# Altium integrated library Motorola Microcontroller 8-Bit.IntLib: 909 symbols (part 4 of 31)
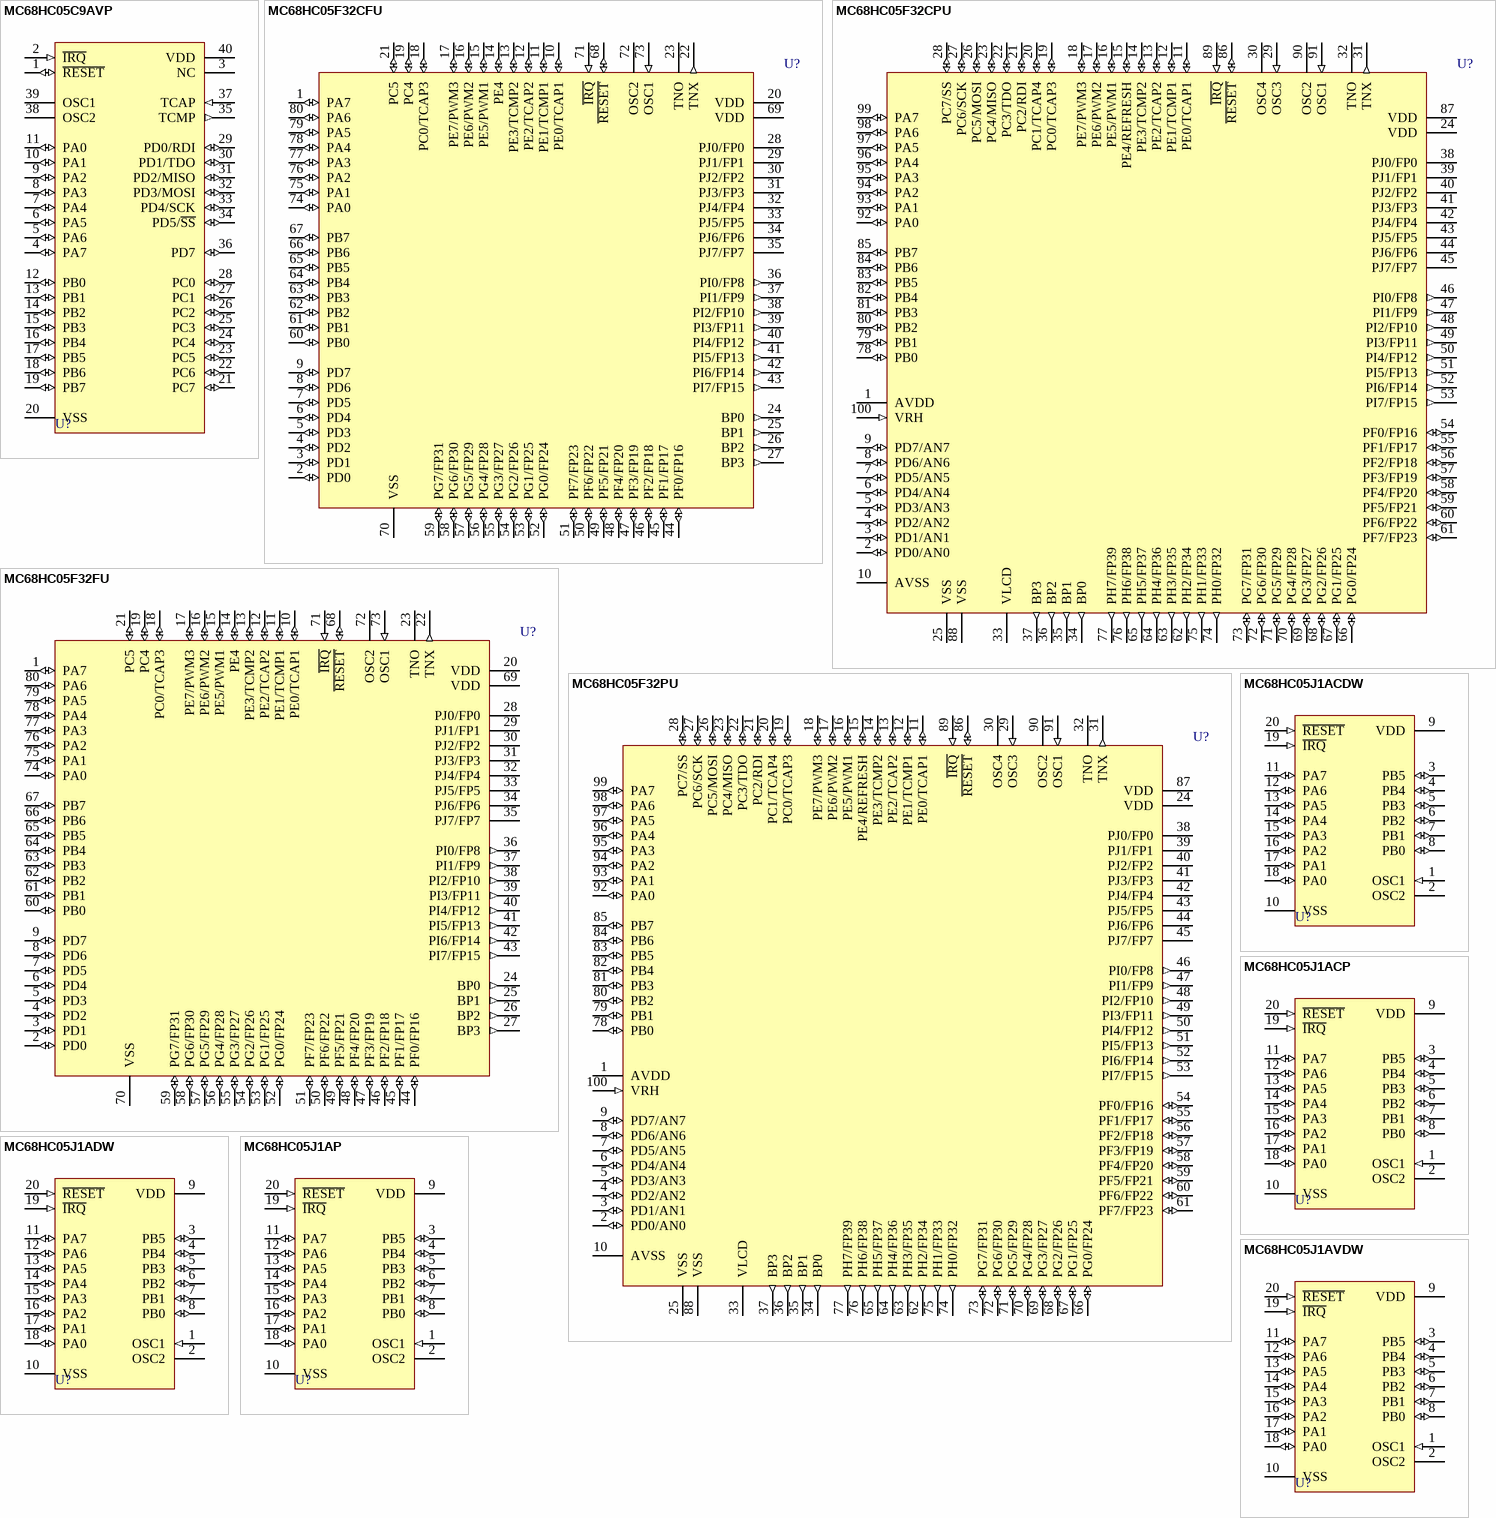
[diagram p116: symbols MC68HC05C9AVP to MC68HC05J1AVDW]

## MC68HC05F32CPU
designator U?
High Density HCMOS microcontroller unit; Published: 17-Jan-2003; LatestRevisionDate: 13-Apr-2006; LatestRevisionNote: IPC-7351 Footprint Added.; DatasheetVersion: 1998; PackageVersion: 1999; PackageReference: 983-01; Publisher: Altium Limited; PackageDescription: 100-Pin Thin Quad Flat Pack 0.5 mm Pitch; ComponentLink1Description: Manufacturer Link; ComponentLink1URL: http://www.freescale.com/
footprint 983-01_N (Thin QFP, 100-Leads, Body 14x14mm, Pitch 0.5mm, IPC Medium Density)
footprint 983-01_L (Thin QFP, 100-Leads, Body 14x14mm, Pitch 0.5mm, IPC High Density)
footprint 983-01_M (Thin QFP, 100-Leads, Body 14x14mm, Pitch 0.5mm, IPC Low Density)
3D model MC68HC05-983-01 (100-Pin Thin Quad Flat Pack 0.5 mm Pitch)
pins: 1 AVDD (power), 2 PD0/AN0 (io), 3 PD1/AN1 (io), 4 PD2/AN2 (io), 5 PD3/AN3 (io), 6 PD4/AN4 (io), 7 PD5/AN5 (io), 8 PD6/AN6 (io), 9 PD7/AN7 (io), 10 AVSS (power), 11 PE0/TCAP1 (io), 12 PE1/TCMP1 (io), 13 PE2/TCAP2 (io), 14 PE3/TCMP2 (io), 15 PE4/REFRESH (io), 16 PE5/PWM1 (io), 17 PE6/PWM2 (io), 18 PE7/PWM3 (io), 19 PC0/TCAP3 (io), 20 PC1/TCAP4 (io), 21 PC2/RDI (io), 22 PC3/TDO (io), 23 PC4/MISO (io), 24 VDD (power), 25 VSS (power), 26 PC5/MOSI (io), 27 PC6/SCK (io), 28 PC7/SS (io), 29 OSC3 (in), 30 OSC4, 31 TNX (out), 32 TNO (hiz), 33 VLCD (power), 34 BP0 (out), 35 BP1 (out), 36 BP2 (out), 37 BP3 (out), 38 PJ0/FP0 (oc), 39 PJ1/FP1 (oc), 40 PJ2/FP2 (oc), 41 PJ3/FP3 (oc), 42 PJ4/FP4 (oc), 43 PJ5/FP5 (oc), 44 PJ6/FP6 (oc), 45 PJ7/FP7 (oc), 46 PI0/FP8 (out), 47 PI1/FP9 (out), 48 PI2/FP10 (out), 49 PI3/FP11 (out), 50 PI4/FP12 (out), 51 PI5/FP13 (out), 52 PI6/FP14 (out), 53 PI7/FP15 (out), 54 PF0/FP16 (io), 55 PF1/FP17 (io), 56 PF2/FP18 (io), 57 PF3/FP19 (io), 58 PF4/FP20 (io), 59 PF5/FP21 (io), 60 PF6/FP22 (io), 61 PF7/FP23 (io), 62 PH2/FP34 (out), 63 PH3/FP35 (out), 64 PH4/FP36 (out), 65 PH5/FP37 (out), 66 PG0/FP24 (io), 67 PG1/FP25 (io), 68 PG2/FP26 (io), 69 PG3/FP27 (io), 70 PG4/FP28 (io), 71 PG5/FP29 (io), 72 PG6/FP30 (io), 73 PG7/FP31 (io), 74 PH0/FP32 (out), 75 PH1/FP33 (out), 76 PH6/FP38 (out), 77 PH7/FP39 (out), 78 PB0 (io), 79 PB1 (io), 80 PB2 (io), 81 PB3 (io), 82 PB4 (io), 83 PB5 (io), 84 PB6 (io), 85 PB7 (io), 86 ~{RESET} (io), 87 VDD (power), 88 VSS (power), 89 ~{IRQ} (in), 90 OSC2, 91 OSC1 (in), 92 PA0 (io), 93 PA1 (io), 94 PA2 (io), 95 PA3 (io), 96 PA4 (io), 97 PA5 (io), 98 PA6 (io), 99 PA7 (io), 100 VRH (in)

## MC68HC05F32FU
designator U?
High Density HCMOS microcontroller unit; Published: 17-Jan-2003; LatestRevisionDate: 13-Apr-2006; LatestRevisionNote: IPC-7351 Footprint Added.; DatasheetVersion: 1998; PackageVersion: Jul-1998; PackageReference: 841B-01; Publisher: Altium Limited; PackageDescription: 80-Pin Quad Flat Pack 0.65 mm Pitch; Code_IPC: QFP65P1720X1720-80; ComponentLink1Description: Manufacturer Link; ComponentLink1URL: http://www.freescale.com/
footprint 841B-01_N (QFP, 80-Leads, Body 14 x 14mm, Pitch 0.65mm, IPC Medium Density)
footprint 841B-01_L (QFP, 80-Leads, Body 14 x 14mm, Pitch 0.65mm, IPC High Density)
footprint 841B-01_M (QFP, 80-Leads, Body 14 x 14mm, Pitch 0.65mm, IPC Low Density)
3D model MC68HC05-841B (80-Pin Quad Flat Pack 0.65 mm Pitch)
pins: 1 PA7 (io), 2 PD0 (io), 3 PD1 (io), 4 PD2 (io), 5 PD3 (io), 6 PD4 (io), 7 PD5 (io), 8 PD6 (io), 9 PD7 (io), 10 PE0/TCAP1 (io), 11 PE1/TCMP1 (io), 12 PE2/TCAP2 (io), 13 PE3/TCMP2 (io), 14 PE4 (io), 15 PE5/PWM1 (io), 16 PE6/PWM2 (io), 17 PE7/PWM3 (io), 18 PC0/TCAP3 (io), 19 PC4 (io), 20 VDD (power), 21 PC5 (io), 22 TNX (out), 23 TNO (hiz), 24 BP0 (out), 25 BP1 (out), 26 BP2 (out), 27 BP3 (out), 28 PJ0/FP0 (oc), 29 PJ1/FP1 (oc), 30 PJ2/FP2 (oc), 31 PJ3/FP3 (oc), 32 PJ4/FP4 (oc), 33 PJ5/FP5 (oc), 34 PJ6/FP6 (oc), 35 PJ7/FP7 (oc), 36 PI0/FP8 (out), 37 PI1/FP9 (out), 38 PI2/FP10 (out), 39 PI3/FP11 (out), 40 PI4/FP12 (out), 41 PI5/FP13 (out), 42 PI6/FP14 (out), 43 PI7/FP15 (out), 44 PF0/FP16 (io), 45 PF1/FP17 (io), 46 PF2/FP18 (io), 47 PF3/FP19 (io), 48 PF4/FP20 (io), 49 PF5/FP21 (io), 50 PF6/FP22 (io), 51 PF7/FP23 (io), 52 PG0/FP24 (io), 53 PG1/FP25 (io), 54 PG2/FP26 (io), 55 PG3/FP27 (io), 56 PG4/FP28 (io), 57 PG5/FP29 (io), 58 PG6/FP30 (io), 59 PG7/FP31 (io), 60 PB0 (io), 61 PB1 (io), 62 PB2 (io), 63 PB3 (io), 64 PB4 (io), 65 PB5 (io), 66 PB6 (io), 67 PB7 (io), 68 ~{RESET} (io), 69 VDD (power), 70 VSS (power), 71 ~{IRQ} (in), 72 OSC2, 73 OSC1 (in), 74 PA0 (io), 75 PA1 (io), 76 PA2 (io), 77 PA3 (io), 78 PA4 (io), 79 PA5 (io), 80 PA6 (io)

## MC68HC05F32PU
designator U?
High Density HCMOS microcontroller unit; Published: 17-Jan-2003; LatestRevisionDate: 13-Apr-2006; LatestRevisionNote: IPC-7351 Footprint Added.; DatasheetVersion: 1998; PackageVersion: 1999; PackageReference: 983-01; Publisher: Altium Limited; PackageDescription: 100-Pin Thin Quad Flat Pack 0.5 mm Pitch; ComponentLink1Description: Manufacturer Link; ComponentLink1URL: http://www.freescale.com/
footprint 983-01_N (Thin QFP, 100-Leads, Body 14x14mm, Pitch 0.5mm, IPC Medium Density)
footprint 983-01_L (Thin QFP, 100-Leads, Body 14x14mm, Pitch 0.5mm, IPC High Density)
footprint 983-01_M (Thin QFP, 100-Leads, Body 14x14mm, Pitch 0.5mm, IPC Low Density)
3D model MC68HC05-983-01 (100-Pin Thin Quad Flat Pack 0.5 mm Pitch)
pins: 1 AVDD (power), 2 PD0/AN0 (io), 3 PD1/AN1 (io), 4 PD2/AN2 (io), 5 PD3/AN3 (io), 6 PD4/AN4 (io), 7 PD5/AN5 (io), 8 PD6/AN6 (io), 9 PD7/AN7 (io), 10 AVSS (power), 11 PE0/TCAP1 (io), 12 PE1/TCMP1 (io), 13 PE2/TCAP2 (io), 14 PE3/TCMP2 (io), 15 PE4/REFRESH (io), 16 PE5/PWM1 (io), 17 PE6/PWM2 (io), 18 PE7/PWM3 (io), 19 PC0/TCAP3 (io), 20 PC1/TCAP4 (io), 21 PC2/RDI (io), 22 PC3/TDO (io), 23 PC4/MISO (io), 24 VDD (power), 25 VSS (power), 26 PC5/MOSI (io), 27 PC6/SCK (io), 28 PC7/SS (io), 29 OSC3 (in), 30 OSC4, 31 TNX (out), 32 TNO (hiz), 33 VLCD (power), 34 BP0 (out), 35 BP1 (out), 36 BP2 (out), 37 BP3 (out), 38 PJ0/FP0 (oc), 39 PJ1/FP1 (oc), 40 PJ2/FP2 (oc), 41 PJ3/FP3 (oc), 42 PJ4/FP4 (oc), 43 PJ5/FP5 (oc), 44 PJ6/FP6 (oc), 45 PJ7/FP7 (oc), 46 PI0/FP8 (out), 47 PI1/FP9 (out), 48 PI2/FP10 (out), 49 PI3/FP11 (out), 50 PI4/FP12 (out), 51 PI5/FP13 (out), 52 PI6/FP14 (out), 53 PI7/FP15 (out), 54 PF0/FP16 (io), 55 PF1/FP17 (io), 56 PF2/FP18 (io), 57 PF3/FP19 (io), 58 PF4/FP20 (io), 59 PF5/FP21 (io), 60 PF6/FP22 (io), 61 PF7/FP23 (io), 62 PH2/FP34 (out), 63 PH3/FP35 (out), 64 PH4/FP36 (out), 65 PH5/FP37 (out), 66 PG0/FP24 (io), 67 PG1/FP25 (io), 68 PG2/FP26 (io), 69 PG3/FP27 (io), 70 PG4/FP28 (io), 71 PG5/FP29 (io), 72 PG6/FP30 (io), 73 PG7/FP31 (io), 74 PH0/FP32 (out), 75 PH1/FP33 (out), 76 PH6/FP38 (out), 77 PH7/FP39 (out), 78 PB0 (io), 79 PB1 (io), 80 PB2 (io), 81 PB3 (io), 82 PB4 (io), 83 PB5 (io), 84 PB6 (io), 85 PB7 (io), 86 ~{RESET} (io), 87 VDD (power), 88 VSS (power), 89 ~{IRQ} (in), 90 OSC2, 91 OSC1 (in), 92 PA0 (io), 93 PA1 (io), 94 PA2 (io), 95 PA3 (io), 96 PA4 (io), 97 PA5 (io), 98 PA6 (io), 99 PA7 (io), 100 VRH (in)

## MC68HC05J1ACDW
designator U?
8-Bit Microcontroller; Published: 17-Jan-2003; LatestRevisionDate: 13-Apr-2006; LatestRevisionNote: IPC-7351 Footprint Added.; DatasheetVersion: Rev 3, 4/2002; PackageReference: 751D-04; Publisher: Altium Limited; PackageDescription: 20-Pin Small Outline Integrated Circuit 1.27 mm Pitch; ComponentLink1Description: Manufacturer Link; ComponentLink1URL: http://www.freescale.com/; ComponentLink2Description: Datasheet; ComponentLink2URL: http://www.freescale.com/files/microcontrollers/doc/data_sheet/MC68HC05J1A.pdf
footprint 751D-04_N (SOIC, 20-Leads, Body 12.8x7.5mm, Pitch 1.27mm, IPC Medium Density)
footprint 751D-04_L (SOIC, 20-Leads, Body 12.8x7.5mm, Pitch 1.27mm, IPC High Density)
footprint 751D-04_M (SOIC, 20-Leads, Body 12.8x7.5mm, Pitch 1.27mm, IPC Low Density)
3D model 751D-05 (20-Pin Small Outline Integrated Circuit 1.27 mm Pitch)
pins: 1 OSC1 (in), 2 OSC2, 3 PB5 (io), 4 PB4 (io), 5 PB3 (io), 6 PB2 (io), 7 PB1 (io), 8 PB0 (io), 9 VDD (power), 10 VSS (power), 11 PA7 (io), 12 PA6 (io), 13 PA5 (io), 14 PA4 (io), 15 PA3 (io), 16 PA2 (io), 17 PA1 (io), 18 PA0 (io), 19 ~{IRQ} (in), 20 ~{RESET} (in)

## MC68HC05J1ACP
designator U?
8-Bit Microcontroller; Published: 17-Jan-2003; LatestRevisionDate: 06-Jun-2005; LatestRevisionNote: Stylized 3D Model Added.; DatasheetVersion: Rev 3, 4/2002; PackageReference: 738-03; Publisher: Altium Limited; PackageDescription: DIP; 20 Leads; Row Spacing 7.62 mm; Pitch 2.54 mm; Code_JEDEC: MS-001-AD; ComponentLink1Description: Manufacturer Link; ComponentLink1URL: http://www.freescale.com/; ComponentLink2Description: Datasheet; ComponentLink2URL: http://www.freescale.com/files/microcontrollers/doc/data_sheet/MC68HC05J1A.pdf
footprint 738-03 (DIP; 20 Leads; Row Spacing 7.62 mm; Pitch 2.54 mm)
3D model 738-03 (DIP; 20 Leads; Row Spacing 7.62 mm; Pitch 2.54 mm)
pins: 1 OSC1 (in), 2 OSC2, 3 PB5 (io), 4 PB4 (io), 5 PB3 (io), 6 PB2 (io), 7 PB1 (io), 8 PB0 (io), 9 VDD (power), 10 VSS (power), 11 PA7 (io), 12 PA6 (io), 13 PA5 (io), 14 PA4 (io), 15 PA3 (io), 16 PA2 (io), 17 PA1 (io), 18 PA0 (io), 19 ~{IRQ} (in), 20 ~{RESET} (in)

## MC68HC05J1ADW
designator U?
8-Bit Microcontroller; Published: 17-Jan-2003; LatestRevisionDate: 13-Apr-2006; LatestRevisionNote: IPC-7351 Footprint Added.; DatasheetVersion: Rev 3, 4/2002; PackageReference: 751D-04; Publisher: Altium Limited; PackageDescription: 20-Pin Small Outline Integrated Circuit 1.27 mm Pitch; ComponentLink1Description: Manufacturer Link; ComponentLink1URL: http://www.freescale.com/; ComponentLink2Description: Datasheet; ComponentLink2URL: http://www.freescale.com/files/microcontrollers/doc/data_sheet/MC68HC05J1A.pdf
footprint 751D-04_N (SOIC, 20-Leads, Body 12.8x7.5mm, Pitch 1.27mm, IPC Medium Density)
footprint 751D-04_L (SOIC, 20-Leads, Body 12.8x7.5mm, Pitch 1.27mm, IPC High Density)
footprint 751D-04_M (SOIC, 20-Leads, Body 12.8x7.5mm, Pitch 1.27mm, IPC Low Density)
3D model 751D-05 (20-Pin Small Outline Integrated Circuit 1.27 mm Pitch)
pins: 1 OSC1 (in), 2 OSC2, 3 PB5 (io), 4 PB4 (io), 5 PB3 (io), 6 PB2 (io), 7 PB1 (io), 8 PB0 (io), 9 VDD (power), 10 VSS (power), 11 PA7 (io), 12 PA6 (io), 13 PA5 (io), 14 PA4 (io), 15 PA3 (io), 16 PA2 (io), 17 PA1 (io), 18 PA0 (io), 19 ~{IRQ} (in), 20 ~{RESET} (in)

## MC68HC05J1AP
designator U?
8-Bit Microcontroller; Published: 17-Jan-2003; LatestRevisionDate: 06-Jun-2005; LatestRevisionNote: Stylized 3D Model Added.; DatasheetVersion: Rev 3, 4/2002; PackageReference: 738-03; Publisher: Altium Limited; PackageDescription: DIP; 20 Leads; Row Spacing 7.62 mm; Pitch 2.54 mm; Code_JEDEC: MS-001-AD; ComponentLink1Description: Manufacturer Link; ComponentLink1URL: http://www.freescale.com/; ComponentLink2Description: Datasheet; ComponentLink2URL: http://www.freescale.com/files/microcontrollers/doc/data_sheet/MC68HC05J1A.pdf
footprint 738-03 (DIP; 20 Leads; Row Spacing 7.62 mm; Pitch 2.54 mm)
3D model 738-03 (DIP; 20 Leads; Row Spacing 7.62 mm; Pitch 2.54 mm)
pins: 1 OSC1 (in), 2 OSC2, 3 PB5 (io), 4 PB4 (io), 5 PB3 (io), 6 PB2 (io), 7 PB1 (io), 8 PB0 (io), 9 VDD (power), 10 VSS (power), 11 PA7 (io), 12 PA6 (io), 13 PA5 (io), 14 PA4 (io), 15 PA3 (io), 16 PA2 (io), 17 PA1 (io), 18 PA0 (io), 19 ~{IRQ} (in), 20 ~{RESET} (in)

## MC68HC05J1AVDW
designator U?
8-Bit Microcontroller; Published: 17-Jan-2003; LatestRevisionDate: 13-Apr-2006; LatestRevisionNote: IPC-7351 Footprint Added.; DatasheetVersion: Rev 3, 4/2002; PackageReference: 751D-04; Publisher: Altium Limited; PackageDescription: 20-Pin Small Outline Integrated Circuit 1.27 mm Pitch; ComponentLink1Description: Manufacturer Link; ComponentLink1URL: http://www.freescale.com/; ComponentLink2Description: Datasheet; ComponentLink2URL: http://www.freescale.com/files/microcontrollers/doc/data_sheet/MC68HC05J1A.pdf
footprint 751D-04_N (SOIC, 20-Leads, Body 12.8x7.5mm, Pitch 1.27mm, IPC Medium Density)
footprint 751D-04_L (SOIC, 20-Leads, Body 12.8x7.5mm, Pitch 1.27mm, IPC High Density)
footprint 751D-04_M (SOIC, 20-Leads, Body 12.8x7.5mm, Pitch 1.27mm, IPC Low Density)
3D model 751D-05 (20-Pin Small Outline Integrated Circuit 1.27 mm Pitch)
pins: 1 OSC1 (in), 2 OSC2, 3 PB5 (io), 4 PB4 (io), 5 PB3 (io), 6 PB2 (io), 7 PB1 (io), 8 PB0 (io), 9 VDD (power), 10 VSS (power), 11 PA7 (io), 12 PA6 (io), 13 PA5 (io), 14 PA4 (io), 15 PA3 (io), 16 PA2 (io), 17 PA1 (io), 18 PA0 (io), 19 ~{IRQ} (in), 20 ~{RESET} (in)

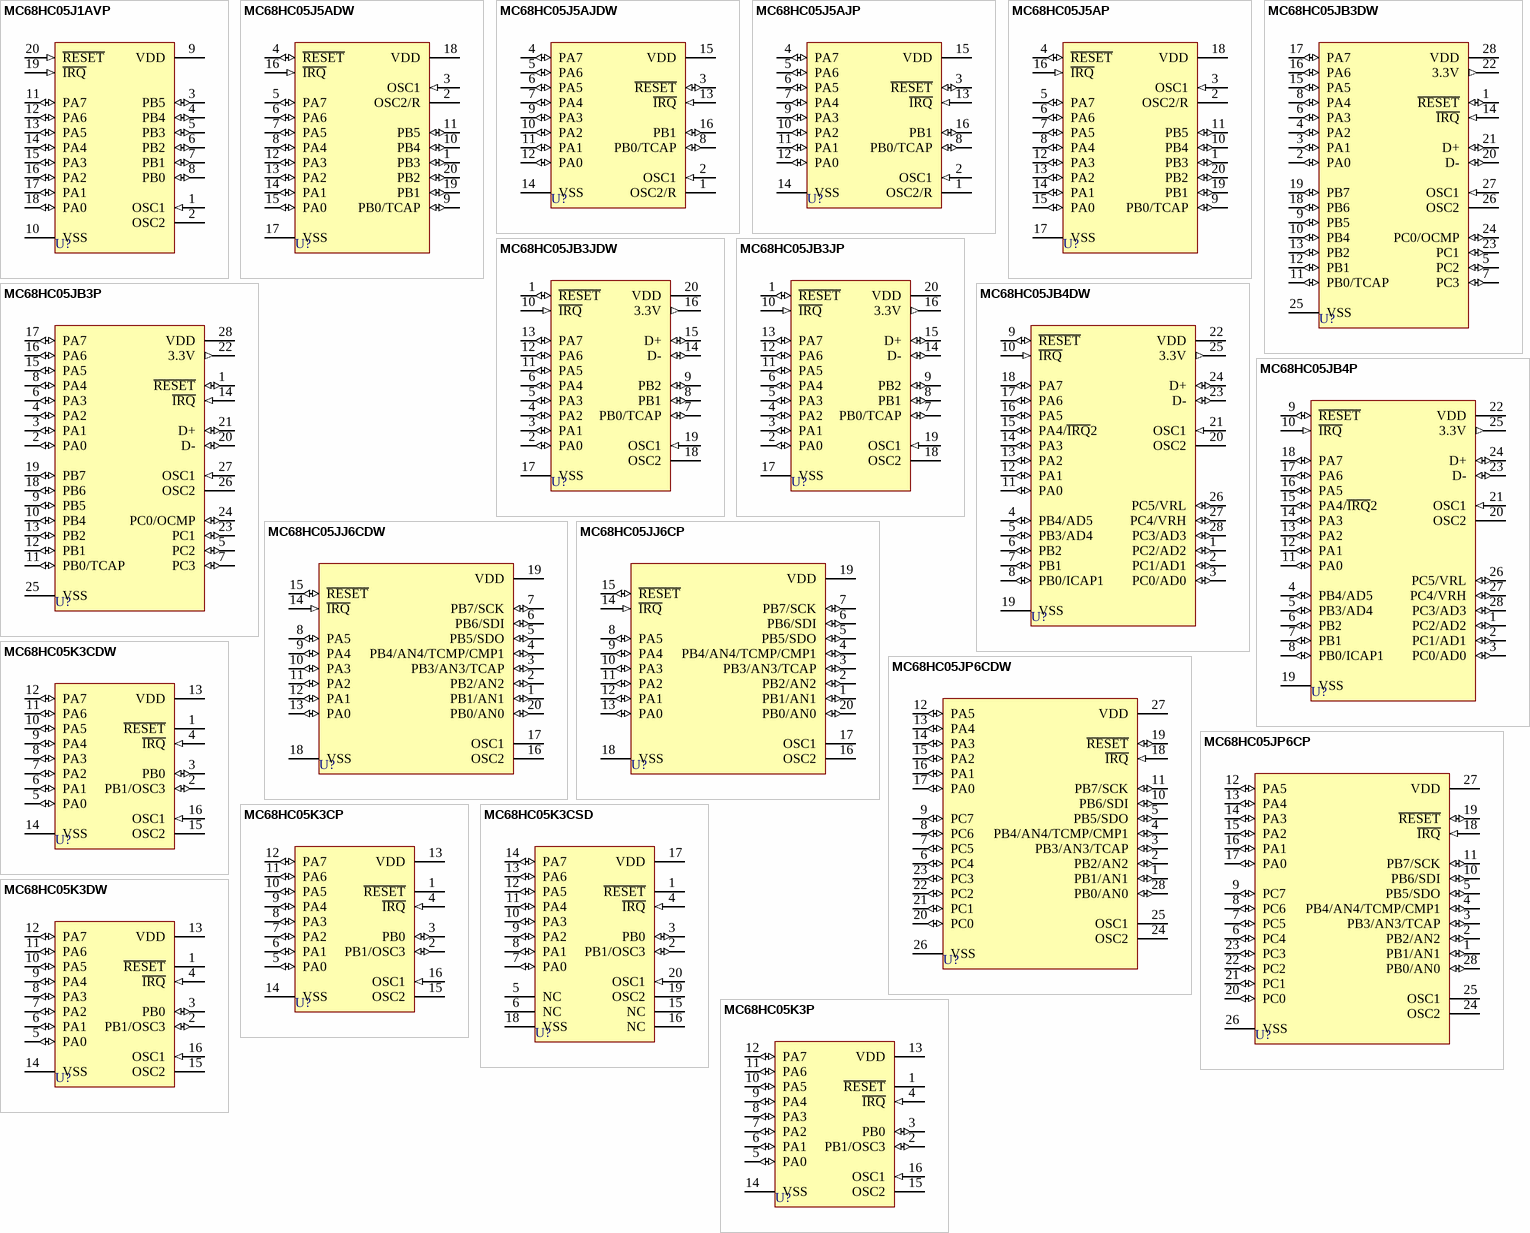
[diagram p10: symbols MC68HC05J1AVP to MC68HC05K3P]

## MC68HC05J1AVP
designator U?
8-Bit Microcontroller; Published: 17-Jan-2003; LatestRevisionDate: 06-Jun-2005; LatestRevisionNote: Stylized 3D Model Added.; DatasheetVersion: Rev 3, 4/2002; PackageReference: 738-03; Publisher: Altium Limited; PackageDescription: DIP; 20 Leads; Row Spacing 7.62 mm; Pitch 2.54 mm; Code_JEDEC: MS-001-AD; ComponentLink1Description: Manufacturer Link; ComponentLink1URL: http://www.freescale.com/; ComponentLink2Description: Datasheet; ComponentLink2URL: http://www.freescale.com/files/microcontrollers/doc/data_sheet/MC68HC05J1A.pdf
footprint 738-03 (DIP; 20 Leads; Row Spacing 7.62 mm; Pitch 2.54 mm)
3D model 738-03 (DIP; 20 Leads; Row Spacing 7.62 mm; Pitch 2.54 mm)
pins: 1 OSC1 (in), 2 OSC2, 3 PB5 (io), 4 PB4 (io), 5 PB3 (io), 6 PB2 (io), 7 PB1 (io), 8 PB0 (io), 9 VDD (power), 10 VSS (power), 11 PA7 (io), 12 PA6 (io), 13 PA5 (io), 14 PA4 (io), 15 PA3 (io), 16 PA2 (io), 17 PA1 (io), 18 PA0 (io), 19 ~{IRQ} (in), 20 ~{RESET} (in)

## MC68HC05J5ADW
designator U?
8-Bit Microcontroller; Published: 17-Jan-2003; LatestRevisionDate: 13-Apr-2006; LatestRevisionNote: IPC-7351 Footprint Added.; DatasheetVersion: Rev 2.1, July 16-1999; PackageReference: 751D-04; Publisher: Altium Limited; PackageDescription: 20-Pin Small Outline Integrated Circuit 1.27 mm Pitch; ComponentLink1Description: Manufacturer Link; ComponentLink1URL: http://www.freescale.com/; ComponentLink2Description: Datasheet; ComponentLink2URL: http://www.freescale.com/files/microcontrollers/doc/data_sheet/HC05J5AGRS.pdf
footprint 751D-04_N (SOIC, 20-Leads, Body 12.8x7.5mm, Pitch 1.27mm, IPC Medium Density)
footprint 751D-04_L (SOIC, 20-Leads, Body 12.8x7.5mm, Pitch 1.27mm, IPC High Density)
footprint 751D-04_M (SOIC, 20-Leads, Body 12.8x7.5mm, Pitch 1.27mm, IPC Low Density)
3D model 751D-05 (20-Pin Small Outline Integrated Circuit 1.27 mm Pitch)
pins: 1 PB3 (io), 2 OSC2/R, 3 OSC1 (in), 4 ~{RESET} (io), 5 PA7 (io), 6 PA6 (io), 7 PA5 (io), 8 PA4 (io), 9 PB0/TCAP (io), 10 PB4 (io), 11 PB5 (io), 12 PA3 (io), 13 PA2 (io), 14 PA1 (io), 15 PA0 (io), 16 ~{IRQ} (in), 17 VSS (power), 18 VDD (power), 19 PB1 (io), 20 PB2 (io)

## MC68HC05J5AJDW
designator U?
8-Bit Microcontroller; Published: 17-Jan-2003; LatestRevisionDate: 13-Apr-2006; LatestRevisionNote: IPC-7351 Footprint Added.; DatasheetVersion: Rev 2.1, July 16-1999; PackageVersion: Sep-2002; PackageReference: 751G; Publisher: Altium Limited; PackageDescription: 16-Pin Small Outline Integrated Circuit 1.27 mm Pitch; ComponentLink1Description: Manufacturer Link; ComponentLink1URL: http://www.freescale.com/; ComponentLink2Description: Datasheet; ComponentLink2URL: http://www.freescale.com/files/microcontrollers/doc/data_sheet/HC05J5AGRS.pdf
footprint 751G_N (SOIC, 16-Leads, Body 10.3x7.5mm, Pitch 1.27mm, IPC Medium Density)
footprint 751G_L (SOIC, 16-Leads, Body 10.3x7.5mm, Pitch 1.27mm, IPC High Density)
footprint 751G_M (SOIC, 16-Leads, Body 10.3x7.5mm, Pitch 1.27mm, IPC Low Density)
3D model 751G (16-Pin Small Outline Integrated Circuit 1.27 mm Pitch)
pins: 1 OSC2/R, 2 OSC1 (in), 3 ~{RESET} (io), 4 PA7 (io), 5 PA6 (io), 6 PA5 (io), 7 PA4 (io), 8 PB0/TCAP (io), 9 PA3 (io), 10 PA2 (io), 11 PA1 (io), 12 PA0 (io), 13 ~{IRQ} (in), 14 VSS (power), 15 VDD (power), 16 PB1 (io)

## MC68HC05J5AJP
designator U?
8-Bit Microcontroller; Published: 17-Jan-2003; LatestRevisionDate: 06-Jun-2005; LatestRevisionNote: Stylized 3D Model Added.; DatasheetVersion: Rev 2.1, July 16-1999; PackageReference: 648-08; Publisher: Altium Limited; PackageDescription: DIP; 16 Leads; Row Spacing 7.62 mm; Pitch 2.54 mm; Code_JEDEC: MS-001-BB; ComponentLink1Description: Manufacturer Link; ComponentLink1URL: http://www.freescale.com/; ComponentLink2Description: Datasheet; ComponentLink2URL: http://www.freescale.com/files/microcontrollers/doc/data_sheet/HC05J5AGRS.pdf
footprint 648-08 (DIP; 16 Leads; Row Spacing 7.62 mm; Pitch 2.54 mm)
3D model 648-08 (DIP; 16 Leads; Row Spacing 7.62 mm; Pitch 2.54 mm)
pins: 1 OSC2/R, 2 OSC1 (in), 3 ~{RESET} (io), 4 PA7 (io), 5 PA6 (io), 6 PA5 (io), 7 PA4 (io), 8 PB0/TCAP (io), 9 PA3 (io), 10 PA2 (io), 11 PA1 (io), 12 PA0 (io), 13 ~{IRQ} (in), 14 VSS (power), 15 VDD (power), 16 PB1 (io)

## MC68HC05J5AP
designator U?
8-Bit Microcontroller; Published: 17-Jan-2003; LatestRevisionDate: 06-Jun-2005; LatestRevisionNote: Stylized 3D Model Added.; DatasheetVersion: Rev 2.1, July 16-1999; PackageReference: 738-03; Publisher: Altium Limited; PackageDescription: DIP; 20 Leads; Row Spacing 7.62 mm; Pitch 2.54 mm; Code_JEDEC: MS-001-AD; ComponentLink1Description: Manufacturer Link; ComponentLink1URL: http://www.freescale.com/; ComponentLink2Description: Datasheet; ComponentLink2URL: http://www.freescale.com/files/microcontrollers/doc/data_sheet/HC05J5AGRS.pdf
footprint 738-03 (DIP; 20 Leads; Row Spacing 7.62 mm; Pitch 2.54 mm)
3D model 738-03 (DIP; 20 Leads; Row Spacing 7.62 mm; Pitch 2.54 mm)
pins: 1 PB3 (io), 2 OSC2/R, 3 OSC1 (in), 4 ~{RESET} (io), 5 PA7 (io), 6 PA6 (io), 7 PA5 (io), 8 PA4 (io), 9 PB0/TCAP (io), 10 PB4 (io), 11 PB5 (io), 12 PA3 (io), 13 PA2 (io), 14 PA1 (io), 15 PA0 (io), 16 ~{IRQ} (in), 17 VSS (power), 18 VDD (power), 19 PB1 (io), 20 PB2 (io)

## MC68HC05JB3DW
designator U?
8-Bit Microcontroller; Published: 17-Jan-2003; LatestRevisionDate: 13-Apr-2006; LatestRevisionNote: IPC-7351 Footprint Added.; DatasheetVersion: Rev 1, 5 Nov, 1998; PackageReference: 751F-03; Publisher: Altium Limited; PackageDescription: 28-Pin Small Outline Integrated Circuit 1.27 mm Pitch; ComponentLink1Description: Manufacturer Link; ComponentLink1URL: http://www.freescale.com/; ComponentLink2Description: Datasheet; ComponentLink2URL: http://www.freescale.com/files/microcontrollers/doc/data_sheet/HC05JB3GRS.pdf
footprint 751F-03_N (SOIC, 28-Leads, Body 17.9x7.5mm, Pitch 1.27mm, IPC Medium Density)
footprint 751F-03_L (SOIC, 28-Leads, Body 17.9x7.5mm, Pitch 1.27mm, IPC High Density)
footprint 751F-03_M (SOIC, 28-Leads, Body 17.9x7.5mm, Pitch 1.27mm, IPC Low Density)
3D model 751F-03 (28-Pin Small Outline Integrated Circuit 1.27 mm Pitch)
pins: 1 ~{RESET} (io), 2 PA0 (io), 3 PA1 (io), 4 PA2 (io), 5 PC2 (io), 6 PA3 (io), 7 PC3 (io), 8 PA4 (io), 9 PB5 (io), 10 PB4 (io), 11 PB0/TCAP (io), 12 PB1 (io), 13 PB2 (io), 14 ~{IRQ} (in), 15 PA5 (io), 16 PA6 (io), 17 PA7 (io), 18 PB6 (io), 19 PB7 (io), 20 D- (io), 21 D+ (io), 22 3.3V (out), 23 PC1 (io), 24 PC0/OCMP (io), 25 VSS (power), 26 OSC2, 27 OSC1 (in), 28 VDD (power)

## MC68HC05JB3JDW
designator U?
8-Bit Microcontroller; Published: 17-Jan-2003; LatestRevisionDate: 13-Apr-2006; LatestRevisionNote: IPC-7351 Footprint Added.; DatasheetVersion: Rev 1, 5 Nov, 1998; PackageReference: 751D-04; Publisher: Altium Limited; PackageDescription: 20-Pin Small Outline Integrated Circuit 1.27 mm Pitch; ComponentLink1Description: Manufacturer Link; ComponentLink1URL: http://www.freescale.com/; ComponentLink2Description: Datasheet; ComponentLink2URL: http://www.freescale.com/files/microcontrollers/doc/data_sheet/HC05JB3GRS.pdf
footprint 751D-04_N (SOIC, 20-Leads, Body 12.8x7.5mm, Pitch 1.27mm, IPC Medium Density)
footprint 751D-04_L (SOIC, 20-Leads, Body 12.8x7.5mm, Pitch 1.27mm, IPC High Density)
footprint 751D-04_M (SOIC, 20-Leads, Body 12.8x7.5mm, Pitch 1.27mm, IPC Low Density)
3D model 751D-05 (20-Pin Small Outline Integrated Circuit 1.27 mm Pitch)
pins: 1 ~{RESET} (io), 2 PA0 (io), 3 PA1 (io), 4 PA2 (io), 5 PA3 (io), 6 PA4 (io), 7 PB0/TCAP (io), 8 PB1 (io), 9 PB2 (io), 10 ~{IRQ} (in), 11 PA5 (io), 12 PA6 (io), 13 PA7 (io), 14 D- (io), 15 D+ (io), 16 3.3V (out), 17 VSS (power), 18 OSC2, 19 OSC1 (in), 20 VDD (power)

## MC68HC05JB3JP
designator U?
8-Bit Microcontroller; Published: 17-Jan-2003; LatestRevisionDate: 06-Jun-2005; LatestRevisionNote: Stylized 3D Model Added.; DatasheetVersion: Rev 1, 5 Nov, 1998; PackageReference: 738-03; Publisher: Altium Limited; PackageDescription: DIP; 20 Leads; Row Spacing 7.62 mm; Pitch 2.54 mm; Code_JEDEC: MS-001-AD; ComponentLink1Description: Manufacturer Link; ComponentLink1URL: http://www.freescale.com/; ComponentLink2Description: Datasheet; ComponentLink2URL: http://www.freescale.com/files/microcontrollers/doc/data_sheet/HC05JB3GRS.pdf
footprint 738-03 (DIP; 20 Leads; Row Spacing 7.62 mm; Pitch 2.54 mm)
3D model 738-03 (DIP; 20 Leads; Row Spacing 7.62 mm; Pitch 2.54 mm)
pins: 1 ~{RESET} (io), 2 PA0 (io), 3 PA1 (io), 4 PA2 (io), 5 PA3 (io), 6 PA4 (io), 7 PB0/TCAP (io), 8 PB1 (io), 9 PB2 (io), 10 ~{IRQ} (in), 11 PA5 (io), 12 PA6 (io), 13 PA7 (io), 14 D- (io), 15 D+ (io), 16 3.3V (out), 17 VSS (power), 18 OSC2, 19 OSC1 (in), 20 VDD (power)

## MC68HC05JB3P
designator U?
8-Bit Microcontroller; Published: 17-Jan-2003; LatestRevisionDate: 06-Jun-2005; LatestRevisionNote: Stylized 3D Model Added.; DatasheetVersion: Rev 1, 5 Nov, 1998; PackageReference: 710-02; Publisher: Altium Limited; PackageDescription: DIP; 28 Leads; Row Spacing 15.24 mm; Pitch 2.54 mm; ComponentLink1Description: Manufacturer Link; ComponentLink1URL: http://www.freescale.com/; ComponentLink2Description: Datasheet; ComponentLink2URL: http://www.freescale.com/files/microcontrollers/doc/data_sheet/HC05JB3GRS.pdf
footprint 710-02 (DIP; 28 Leads; Row Spacing 15.24 mm; Pitch 2.54 mm)
3D model 710-02 (DIP; 28 Leads; Row Spacing 15.24 mm; Pitch 2.54 mm)
pins: 1 ~{RESET} (io), 2 PA0 (io), 3 PA1 (io), 4 PA2 (io), 5 PC2 (io), 6 PA3 (io), 7 PC3 (io), 8 PA4 (io), 9 PB5 (io), 10 PB4 (io), 11 PB0/TCAP (io), 12 PB1 (io), 13 PB2 (io), 14 ~{IRQ} (in), 15 PA5 (io), 16 PA6 (io), 17 PA7 (io), 18 PB6 (io), 19 PB7 (io), 20 D- (io), 21 D+ (io), 22 3.3V (out), 23 PC1 (io), 24 PC0/OCMP (io), 25 VSS (power), 26 OSC2, 27 OSC1 (in), 28 VDD (power)

## MC68HC05JB4DW
designator U?
8-Bit Microcontroller; Published: 17-Jan-2003; LatestRevisionDate: 13-Apr-2006; LatestRevisionNote: IPC-7351 Footprint Added.; DatasheetVersion: Rev 2, 24-Feb-1999; PackageReference: 751F-03; Publisher: Altium Limited; PackageDescription: 28-Pin Small Outline Integrated Circuit 1.27 mm Pitch; ComponentLink1Description: Manufacturer Link; ComponentLink1URL: http://www.freescale.com/; ComponentLink2Description: Datasheet; ComponentLink2URL: http://www.freescale.com/files/microcontrollers/doc/data_sheet/HC05JB4GRS.pdf
footprint 751F-03_N (SOIC, 28-Leads, Body 17.9x7.5mm, Pitch 1.27mm, IPC Medium Density)
footprint 751F-03_L (SOIC, 28-Leads, Body 17.9x7.5mm, Pitch 1.27mm, IPC High Density)
footprint 751F-03_M (SOIC, 28-Leads, Body 17.9x7.5mm, Pitch 1.27mm, IPC Low Density)
3D model 751F-03 (28-Pin Small Outline Integrated Circuit 1.27 mm Pitch)
pins: 1 PC2/AD2 (io), 2 PC1/AD1 (io), 3 PC0/AD0 (io), 4 PB4/AD5 (io), 5 PB3/AD4 (io), 6 PB2 (io), 7 PB1 (io), 8 PB0/ICAP1 (io), 9 ~{RESET} (io), 10 ~{IRQ} (in), 11 PA0 (io), 12 PA1 (io), 13 PA2 (io), 14 PA3 (io), 15 PA4/~{IRQ}2 (io), 16 PA5 (io), 17 PA6 (io), 18 PA7 (io), 19 VSS (power), 20 OSC2, 21 OSC1 (in), 22 VDD (power), 23 D- (io), 24 D+ (io), 25 3.3V (out), 26 PC5/VRL (io), 27 PC4/VRH (io), 28 PC3/AD3 (io)

## MC68HC05JB4P
designator U?
8-Bit Microcontroller; Published: 17-Jan-2003; LatestRevisionDate: 06-Jun-2005; LatestRevisionNote: Stylized 3D Model Added.; DatasheetVersion: Rev 2, 24-Feb-1999; PackageReference: 710-02; Publisher: Altium Limited; PackageDescription: DIP; 28 Leads; Row Spacing 15.24 mm; Pitch 2.54 mm; ComponentLink1Description: Manufacturer Link; ComponentLink1URL: http://www.freescale.com/; ComponentLink2Description: Datasheet; ComponentLink2URL: http://www.freescale.com/files/microcontrollers/doc/data_sheet/HC05JB4GRS.pdf
footprint 710-02 (DIP; 28 Leads; Row Spacing 15.24 mm; Pitch 2.54 mm)
3D model 710-02 (DIP; 28 Leads; Row Spacing 15.24 mm; Pitch 2.54 mm)
pins: 1 PC2/AD2 (io), 2 PC1/AD1 (io), 3 PC0/AD0 (io), 4 PB4/AD5 (io), 5 PB3/AD4 (io), 6 PB2 (io), 7 PB1 (io), 8 PB0/ICAP1 (io), 9 ~{RESET} (io), 10 ~{IRQ} (in), 11 PA0 (io), 12 PA1 (io), 13 PA2 (io), 14 PA3 (io), 15 PA4/~{IRQ}2 (io), 16 PA5 (io), 17 PA6 (io), 18 PA7 (io), 19 VSS (power), 20 OSC2, 21 OSC1 (in), 22 VDD (power), 23 D- (io), 24 D+ (io), 25 3.3V (out), 26 PC5/VRL (io), 27 PC4/VRH (io), 28 PC3/AD3 (io)

## MC68HC05JJ6CDW
designator U?
8-Bit Microcontroller; Published: 17-Jan-2003; LatestRevisionDate: 13-Apr-2006; LatestRevisionNote: IPC-7351 Footprint Added.; DatasheetVersion: Rev 3, 2-Mar-1998; PackageReference: 751D-04; Publisher: Altium Limited; PackageDescription: 20-Pin Small Outline Integrated Circuit 1.27 mm Pitch; ComponentLink1Description: Manufacturer Link; ComponentLink1URL: http://www.freescale.com/
footprint 751D-04_N (SOIC, 20-Leads, Body 12.8x7.5mm, Pitch 1.27mm, IPC Medium Density)
footprint 751D-04_L (SOIC, 20-Leads, Body 12.8x7.5mm, Pitch 1.27mm, IPC High Density)
footprint 751D-04_M (SOIC, 20-Leads, Body 12.8x7.5mm, Pitch 1.27mm, IPC Low Density)
3D model 751D-05 (20-Pin Small Outline Integrated Circuit 1.27 mm Pitch)
pins: 1 PB1/AN1 (io), 2 PB2/AN2 (io), 3 PB3/AN3/TCAP (io), 4 PB4/AN4/TCMP/CMP1 (io), 5 PB5/SDO (io), 6 PB6/SDI (io), 7 PB7/SCK (io), 8 PA5 (io), 9 PA4 (io), 10 PA3 (io), 11 PA2 (io), 12 PA1 (io), 13 PA0 (io), 14 ~{IRQ} (in), 15 ~{RESET} (io), 16 OSC2, 17 OSC1, 18 VSS (power), 19 VDD (power), 20 PB0/AN0 (io)

## MC68HC05JJ6CP
designator U?
8-Bit Microcontroller; Published: 17-Jan-2003; LatestRevisionDate: 06-Jun-2005; LatestRevisionNote: Stylized 3D Model Added.; DatasheetVersion: Rev 3, 2-Mar-1998; PackageReference: 738-03; Publisher: Altium Limited; PackageDescription: DIP; 20 Leads; Row Spacing 7.62 mm; Pitch 2.54 mm; Code_JEDEC: MS-001-AD; ComponentLink1Description: Manufacturer Link; ComponentLink1URL: http://www.freescale.com/
footprint 738-03 (DIP; 20 Leads; Row Spacing 7.62 mm; Pitch 2.54 mm)
3D model 738-03 (DIP; 20 Leads; Row Spacing 7.62 mm; Pitch 2.54 mm)
pins: 1 PB1/AN1 (io), 2 PB2/AN2 (io), 3 PB3/AN3/TCAP (io), 4 PB4/AN4/TCMP/CMP1 (io), 5 PB5/SDO (io), 6 PB6/SDI (io), 7 PB7/SCK (io), 8 PA5 (io), 9 PA4 (io), 10 PA3 (io), 11 PA2 (io), 12 PA1 (io), 13 PA0 (io), 14 ~{IRQ} (in), 15 ~{RESET} (io), 16 OSC2, 17 OSC1, 18 VSS (power), 19 VDD (power), 20 PB0/AN0 (io)

## MC68HC05JP6CDW
designator U?
8-Bit Microcontroller; Published: 17-Jan-2003; LatestRevisionDate: 13-Apr-2006; LatestRevisionNote: IPC-7351 Footprint Added.; DatasheetVersion: Rev 3, 2-Mar-1998; PackageReference: 751F-03; Publisher: Altium Limited; PackageDescription: 28-Pin Small Outline Integrated Circuit 1.27 mm Pitch; ComponentLink1Description: Manufacturer Link; ComponentLink1URL: http://www.freescale.com/
footprint 751F-03_N (SOIC, 28-Leads, Body 17.9x7.5mm, Pitch 1.27mm, IPC Medium Density)
footprint 751F-03_L (SOIC, 28-Leads, Body 17.9x7.5mm, Pitch 1.27mm, IPC High Density)
footprint 751F-03_M (SOIC, 28-Leads, Body 17.9x7.5mm, Pitch 1.27mm, IPC Low Density)
3D model 751F-03 (28-Pin Small Outline Integrated Circuit 1.27 mm Pitch)
pins: 1 PB1/AN1 (io), 2 PB2/AN2 (io), 3 PB3/AN3/TCAP (io), 4 PB4/AN4/TCMP/CMP1 (io), 5 PB5/SDO (io), 6 PC4 (io), 7 PC5 (io), 8 PC6 (io), 9 PC7 (io), 10 PB6/SDI (io), 11 PB7/SCK (io), 12 PA5 (io), 13 PA4 (io), 14 PA3 (io), 15 PA2 (io), 16 PA1 (io), 17 PA0 (io), 18 ~{IRQ} (in), 19 ~{RESET} (io), 20 PC0 (io), 21 PC1 (io), 22 PC2 (io), 23 PC3 (io), 24 OSC2, 25 OSC1, 26 VSS (power), 27 VDD (power), 28 PB0/AN0 (io)

## MC68HC05JP6CP
designator U?
8-Bit Microcontroller; Published: 17-Jan-2003; LatestRevisionDate: 06-Jun-2005; LatestRevisionNote: Stylized 3D Model Added.; DatasheetVersion: Rev 3, 2-Mar-1998; PackageReference: 710-02; Publisher: Altium Limited; PackageDescription: DIP; 28 Leads; Row Spacing 15.24 mm; Pitch 2.54 mm; ComponentLink1Description: Manufacturer Link; ComponentLink1URL: http://www.freescale.com/
footprint 710-02 (DIP; 28 Leads; Row Spacing 15.24 mm; Pitch 2.54 mm)
3D model 710-02 (DIP; 28 Leads; Row Spacing 15.24 mm; Pitch 2.54 mm)
pins: 1 PB1/AN1 (io), 2 PB2/AN2 (io), 3 PB3/AN3/TCAP (io), 4 PB4/AN4/TCMP/CMP1 (io), 5 PB5/SDO (io), 6 PC4 (io), 7 PC5 (io), 8 PC6 (io), 9 PC7 (io), 10 PB6/SDI (io), 11 PB7/SCK (io), 12 PA5 (io), 13 PA4 (io), 14 PA3 (io), 15 PA2 (io), 16 PA1 (io), 17 PA0 (io), 18 ~{IRQ} (in), 19 ~{RESET} (io), 20 PC0 (io), 21 PC1 (io), 22 PC2 (io), 23 PC3 (io), 24 OSC2, 25 OSC1, 26 VSS (power), 27 VDD (power), 28 PB0/AN0 (io)

## MC68HC05K3CDW
designator U?
8-Bit Microcontroller; Published: 17-Jan-2003; LatestRevisionDate: 13-Apr-2006; LatestRevisionNote: IPC-7351 Footprint Added.; DatasheetVersion: Rev 4, 1998; PackageVersion: Sep-2002; PackageReference: 751G; Publisher: Altium Limited; PackageDescription: 16-Pin Small Outline Integrated Circuit 1.27 mm Pitch; ComponentLink1Description: Manufacturer Link; ComponentLink1URL: http://www.freescale.com/
footprint 751G_N (SOIC, 16-Leads, Body 10.3x7.5mm, Pitch 1.27mm, IPC Medium Density)
footprint 751G_L (SOIC, 16-Leads, Body 10.3x7.5mm, Pitch 1.27mm, IPC High Density)
footprint 751G_M (SOIC, 16-Leads, Body 10.3x7.5mm, Pitch 1.27mm, IPC Low Density)
3D model 751G (16-Pin Small Outline Integrated Circuit 1.27 mm Pitch)
pins: 1 ~{RESET}, 2 PB1/OSC3 (io), 3 PB0 (io), 4 ~{IRQ} (in), 5 PA0 (io), 6 PA1 (io), 7 PA2 (io), 8 PA3 (io), 9 PA4 (io), 10 PA5 (io), 11 PA6 (io), 12 PA7 (io), 13 VDD (power), 14 VSS (power), 15 OSC2, 16 OSC1 (in)

## MC68HC05K3CP
designator U?
8-Bit Microcontroller; Published: 17-Jan-2003; LatestRevisionDate: 06-Jun-2005; LatestRevisionNote: Stylized 3D Model Added.; DatasheetVersion: Rev 4, 1998; PackageReference: 648-08; Publisher: Altium Limited; PackageDescription: DIP; 16 Leads; Row Spacing 7.62 mm; Pitch 2.54 mm; Code_JEDEC: MS-001-BB; ComponentLink1Description: Manufacturer Link; ComponentLink1URL: http://www.freescale.com/
footprint 648-08 (DIP; 16 Leads; Row Spacing 7.62 mm; Pitch 2.54 mm)
3D model 648-08 (DIP; 16 Leads; Row Spacing 7.62 mm; Pitch 2.54 mm)
pins: 1 ~{RESET}, 2 PB1/OSC3 (io), 3 PB0 (io), 4 ~{IRQ} (in), 5 PA0 (io), 6 PA1 (io), 7 PA2 (io), 8 PA3 (io), 9 PA4 (io), 10 PA5 (io), 11 PA6 (io), 12 PA7 (io), 13 VDD (power), 14 VSS (power), 15 OSC2, 16 OSC1 (in)

## MC68HC05K3CSD
designator U?
8-Bit Microcontroller; Published: 17-Jan-2003; LatestRevisionDate: 06-Jun-2005; LatestRevisionNote: Stylized 3D Model Added.; DatasheetVersion: Rev 4, 1998; PackageVersion: rev4.0, 2001; PackageReference: 940C-03; Publisher: Altium Limited; PackageDescription: SSOP; 20 Leads; Body Width 5.3 mm; Pitch 0.65 mm; ComponentLink1Description: Manufacturer Link; ComponentLink1URL: http://www.freescale.com/
footprint 940C-03 (SSOP; 20 Leads; Body Width 5.3 mm; Pitch 0.65 mm)
3D model 940C-03 (SSOP; 20 Leads; Body Width 5.3 mm; Pitch 0.65 mm)
pins: 1 ~{RESET}, 2 PB1/OSC3 (io), 3 PB0 (io), 4 ~{IRQ} (in), 5 NC, 6 NC, 7 PA0 (io), 8 PA1 (io), 9 PA2 (io), 10 PA3 (io), 11 PA4 (io), 12 PA5 (io), 13 PA6 (io), 14 PA7 (io), 15 NC, 16 NC, 17 VDD (power), 18 VSS (power), 19 OSC2, 20 OSC1 (in)

## MC68HC05K3DW
designator U?
8-Bit Microcontroller; Published: 17-Jan-2003; LatestRevisionDate: 13-Apr-2006; LatestRevisionNote: IPC-7351 Footprint Added.; DatasheetVersion: Rev 4, 1998; PackageVersion: Sep-2002; PackageReference: 751G; Publisher: Altium Limited; PackageDescription: 16-Pin Small Outline Integrated Circuit 1.27 mm Pitch; ComponentLink1Description: Manufacturer Link; ComponentLink1URL: http://www.freescale.com/
footprint 751G_N (SOIC, 16-Leads, Body 10.3x7.5mm, Pitch 1.27mm, IPC Medium Density)
footprint 751G_L (SOIC, 16-Leads, Body 10.3x7.5mm, Pitch 1.27mm, IPC High Density)
footprint 751G_M (SOIC, 16-Leads, Body 10.3x7.5mm, Pitch 1.27mm, IPC Low Density)
3D model 751G (16-Pin Small Outline Integrated Circuit 1.27 mm Pitch)
pins: 1 ~{RESET}, 2 PB1/OSC3 (io), 3 PB0 (io), 4 ~{IRQ} (in), 5 PA0 (io), 6 PA1 (io), 7 PA2 (io), 8 PA3 (io), 9 PA4 (io), 10 PA5 (io), 11 PA6 (io), 12 PA7 (io), 13 VDD (power), 14 VSS (power), 15 OSC2, 16 OSC1 (in)

## MC68HC05K3P
designator U?
8-Bit Microcontroller; Published: 17-Jan-2003; LatestRevisionDate: 06-Jun-2005; LatestRevisionNote: Stylized 3D Model Added.; DatasheetVersion: Rev 4, 1998; PackageReference: 648-08; Publisher: Altium Limited; PackageDescription: DIP; 16 Leads; Row Spacing 7.62 mm; Pitch 2.54 mm; Code_JEDEC: MS-001-BB; ComponentLink1Description: Manufacturer Link; ComponentLink1URL: http://www.freescale.com/
footprint 648-08 (DIP; 16 Leads; Row Spacing 7.62 mm; Pitch 2.54 mm)
3D model 648-08 (DIP; 16 Leads; Row Spacing 7.62 mm; Pitch 2.54 mm)
pins: 1 ~{RESET}, 2 PB1/OSC3 (io), 3 PB0 (io), 4 ~{IRQ} (in), 5 PA0 (io), 6 PA1 (io), 7 PA2 (io), 8 PA3 (io), 9 PA4 (io), 10 PA5 (io), 11 PA6 (io), 12 PA7 (io), 13 VDD (power), 14 VSS (power), 15 OSC2, 16 OSC1 (in)

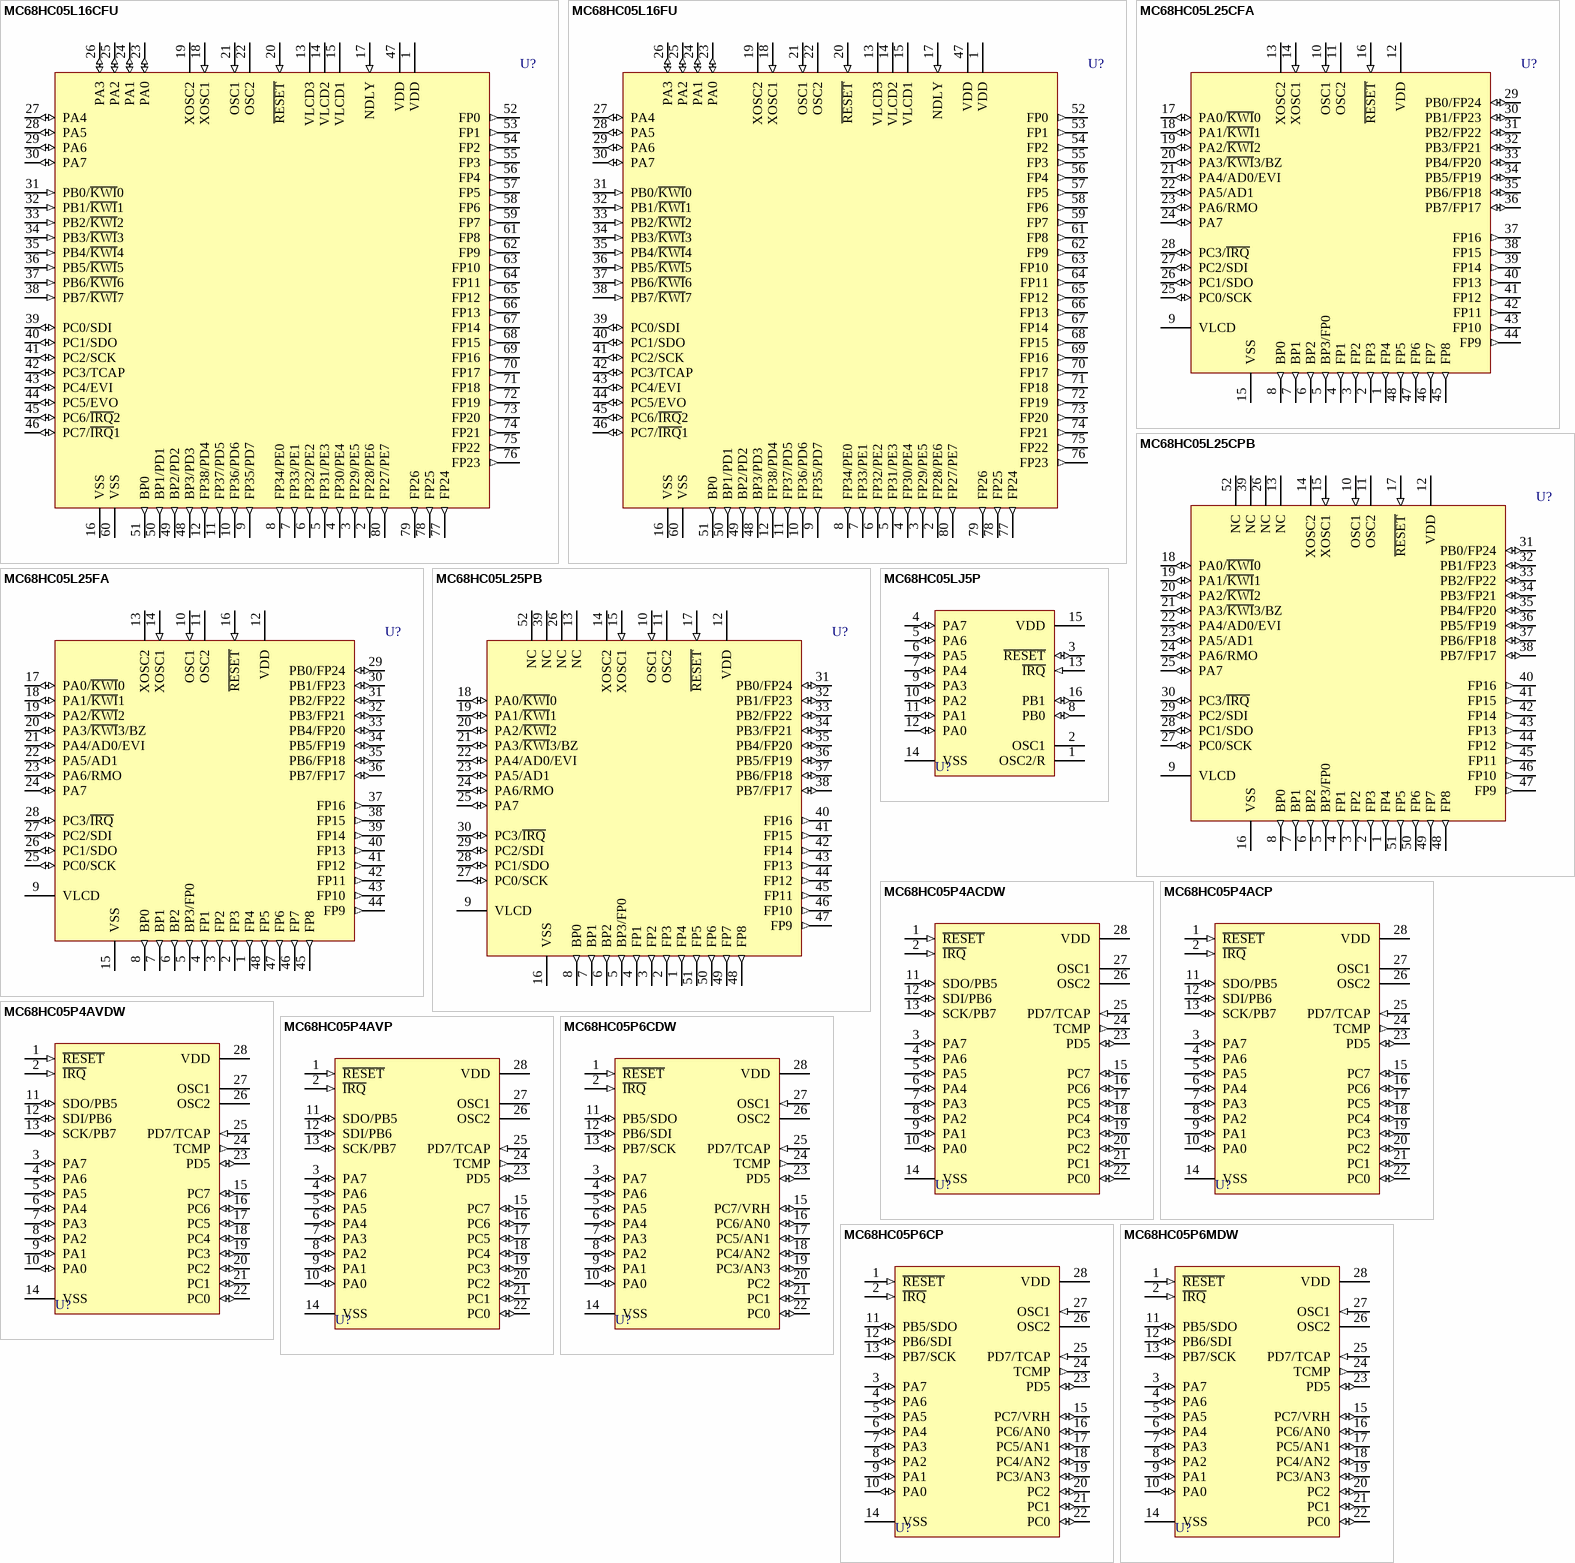
[diagram p11: symbols MC68HC05L16CFU to MC68HC05P6MDW]

## MC68HC05L16CFU
designator U?
8-Bit Microcontroller; Note: Pin 17 (NDLY) should be connected to VDD.; Published: 17-Jan-2003; LatestRevisionDate: 13-Apr-2006; LatestRevisionNote: IPC-7351 Footprint Added.; DatasheetVersion: Rev 4, 5/2002; PackageVersion: Jul-1998; PackageReference: 841B-01; Publisher: Altium Limited; PackageDescription: 80-Pin Quad Flat Pack 0.65 mm Pitch; Code_IPC: QFP65P1720X1720-80; ComponentLink1Description: Manufacturer Link; ComponentLink1URL: http://www.freescale.com/
footprint 841B-01_N (QFP, 80-Leads, Body 14 x 14mm, Pitch 0.65mm, IPC Medium Density)
footprint 841B-01_L (QFP, 80-Leads, Body 14 x 14mm, Pitch 0.65mm, IPC High Density)
footprint 841B-01_M (QFP, 80-Leads, Body 14 x 14mm, Pitch 0.65mm, IPC Low Density)
3D model MC68HC05-841B (80-Pin Quad Flat Pack 0.65 mm Pitch)
pins: 1 VDD (power), 2 FP28/PE6 (out), 3 FP29/PE5 (out), 4 FP30/PE4 (out), 5 FP31/PE3 (out), 6 FP32/PE2 (out), 7 FP33/PE1 (out), 8 FP34/PE0 (out), 9 FP35/PD7 (out), 10 FP36/PD6 (out), 11 FP37/PD5 (out), 12 FP38/PD4 (out), 13 VLCD3 (power), 14 VLCD2 (power), 15 VLCD1 (power), 16 VSS (power), 17 NDLY (in), 18 XOSC1 (in), 19 XOSC2, 20 ~{RESET} (in), 21 OSC1 (in), 22 OSC2, 23 PA0 (io), 24 PA1 (io), 25 PA2 (io), 26 PA3 (io), 27 PA4 (io), 28 PA5 (io), 29 PA6 (io), 30 PA7 (io), 31 PB0/~{KWI}0 (in), 32 PB1/~{KWI}1 (in), 33 PB2/~{KWI}2 (in), 34 PB3/~{KWI}3 (in), 35 PB4/~{KWI}4 (in), 36 PB5/~{KWI}5 (in), 37 PB6/~{KWI}6 (in), 38 PB7/~{KWI}7 (in), 39 PC0/SDI (io), 40 PC1/SDO (io), 41 PC2/SCK (io), 42 PC3/TCAP (io), 43 PC4/EVI (io), 44 PC5/EVO (io), 45 PC6/~{IRQ}2 (io), 46 PC7/~{IRQ}1 (io), 47 VDD (power), 48 BP3/PD3 (out), 49 BP2/PD2 (out), 50 BP1/PD1 (out), 51 BP0 (out), 52 FP0 (out), 53 FP1 (out), 54 FP2 (out), 55 FP3 (out), 56 FP4 (out), 57 FP5 (out), 58 FP6 (out), 59 FP7 (out), 60 VSS (power), 61 FP8 (out), 62 FP9 (out), 63 FP10 (out), 64 FP11 (out), 65 FP12 (out), 66 FP13 (out), 67 FP14 (out), 68 FP15 (out), 69 FP16 (out), 70 FP17 (out), 71 FP18 (out), 72 FP19 (out), 73 FP20 (out), 74 FP21 (out), 75 FP22 (out), 76 FP23 (out), 77 FP24 (out), 78 FP25 (out), 79 FP26 (out), 80 FP27/PE7 (out)

## MC68HC05L16FU
designator U?
8-Bit Microcontroller; Note: Pin 17 (NDLY) should be connected to VDD.; Published: 17-Jan-2003; LatestRevisionDate: 13-Apr-2006; LatestRevisionNote: IPC-7351 Footprint Added.; DatasheetVersion: Rev 4, 5/2002; PackageVersion: Jul-1998; PackageReference: 841B-01; Publisher: Altium Limited; PackageDescription: 80-Pin Quad Flat Pack 0.65 mm Pitch; Code_IPC: QFP65P1720X1720-80; ComponentLink1Description: Manufacturer Link; ComponentLink1URL: http://www.freescale.com/
footprint 841B-01_N (QFP, 80-Leads, Body 14 x 14mm, Pitch 0.65mm, IPC Medium Density)
footprint 841B-01_L (QFP, 80-Leads, Body 14 x 14mm, Pitch 0.65mm, IPC High Density)
footprint 841B-01_M (QFP, 80-Leads, Body 14 x 14mm, Pitch 0.65mm, IPC Low Density)
3D model MC68HC05-841B (80-Pin Quad Flat Pack 0.65 mm Pitch)
pins: 1 VDD (power), 2 FP28/PE6 (out), 3 FP29/PE5 (out), 4 FP30/PE4 (out), 5 FP31/PE3 (out), 6 FP32/PE2 (out), 7 FP33/PE1 (out), 8 FP34/PE0 (out), 9 FP35/PD7 (out), 10 FP36/PD6 (out), 11 FP37/PD5 (out), 12 FP38/PD4 (out), 13 VLCD3 (power), 14 VLCD2 (power), 15 VLCD1 (power), 16 VSS (power), 17 NDLY (in), 18 XOSC1 (in), 19 XOSC2, 20 ~{RESET} (in), 21 OSC1 (in), 22 OSC2, 23 PA0 (io), 24 PA1 (io), 25 PA2 (io), 26 PA3 (io), 27 PA4 (io), 28 PA5 (io), 29 PA6 (io), 30 PA7 (io), 31 PB0/~{KWI}0 (in), 32 PB1/~{KWI}1 (in), 33 PB2/~{KWI}2 (in), 34 PB3/~{KWI}3 (in), 35 PB4/~{KWI}4 (in), 36 PB5/~{KWI}5 (in), 37 PB6/~{KWI}6 (in), 38 PB7/~{KWI}7 (in), 39 PC0/SDI (io), 40 PC1/SDO (io), 41 PC2/SCK (io), 42 PC3/TCAP (io), 43 PC4/EVI (io), 44 PC5/EVO (io), 45 PC6/~{IRQ}2 (io), 46 PC7/~{IRQ}1 (io), 47 VDD (power), 48 BP3/PD3 (out), 49 BP2/PD2 (out), 50 BP1/PD1 (out), 51 BP0 (out), 52 FP0 (out), 53 FP1 (out), 54 FP2 (out), 55 FP3 (out), 56 FP4 (out), 57 FP5 (out), 58 FP6 (out), 59 FP7 (out), 60 VSS (power), 61 FP8 (out), 62 FP9 (out), 63 FP10 (out), 64 FP11 (out), 65 FP12 (out), 66 FP13 (out), 67 FP14 (out), 68 FP15 (out), 69 FP16 (out), 70 FP17 (out), 71 FP18 (out), 72 FP19 (out), 73 FP20 (out), 74 FP21 (out), 75 FP22 (out), 76 FP23 (out), 77 FP24 (out), 78 FP25 (out), 79 FP26 (out), 80 FP27/PE7 (out)

## MC68HC05L25CFA
designator U?
8-Bit Microcontroller; Published: 17-Jan-2003; LatestRevisionDate: 13-Apr-2006; LatestRevisionNote: IPC-7351 Footprint Added.; DatasheetVersion: Rev 3, 5/2002; PackageVersion: rev4, Feb-2002; PackageReference: 932-02; Publisher: Altium Limited; PackageDescription: 48-Pin Thin Quad Flat Pack 0.5 mm Pitch; ComponentLink1Description: Manufacturer Link; ComponentLink1URL: http://www.freescale.com/
footprint 932-02_N (Thin QFP, 48-Leads, Body 7x7mm, Pitch 0.5mm, IPC Medium Density)
footprint 932-02_L (Thin QFP, 48-Leads, Body 7x7mm, Pitch 0.5mm, IPC High Density)
footprint 932-02_M (Thin QFP, 48-Leads, Body 7x7mm, Pitch 0.5mm, IPC Low Density)
3D model MC68HC05-932-02 (48-Pin Thin Quad Flat Pack 0.5 mm Pitch)
pins: 1 FP4 (out), 2 FP3 (out), 3 FP2 (out), 4 FP1 (out), 5 BP3/FP0 (out), 6 BP2 (out), 7 BP1 (out), 8 BP0 (out), 9 VLCD (power), 10 OSC1 (in), 11 OSC2, 12 VDD (power), 13 XOSC2, 14 XOSC1 (in), 15 VSS (power), 16 ~{RESET} (in), 17 PA0/~{KWI}0 (io), 18 PA1/~{KWI}1 (io), 19 PA2/~{KWI}2 (io), 20 PA3/~{KWI}3/BZ (io), 21 PA4/AD0/EVI (io), 22 PA5/AD1 (io), 23 PA6/RMO (io), 24 PA7 (io), 25 PC0/SCK (io), 26 PC1/SDO (io), 27 PC2/SDI (io), 28 PC3/~{IRQ} (io), 29 PB0/FP24 (io), 30 PB1/FP23 (io), 31 PB2/FP22 (io), 32 PB3/FP21 (io), 33 PB4/FP20 (io), 34 PB5/FP19 (io), 35 PB6/FP18 (io), 36 PB7/FP17 (io), 37 FP16 (out), 38 FP15 (out), 39 FP14 (out), 40 FP13 (out), 41 FP12 (out), 42 FP11 (out), 43 FP10 (out), 44 FP9 (out), 45 FP8 (out), 46 FP7 (out), 47 FP6 (out), 48 FP5 (out)

## MC68HC05L25CPB
designator U?
8-Bit Microcontroller; Published: 17-Jan-2003; LatestRevisionDate: 13-Apr-2006; LatestRevisionNote: IPC-7351 Footprint Added.; DatasheetVersion: Rev 3, 5/2002; PackageVersion: rev4, Jul-2002; PackageReference: 848D; Publisher: Altium Limited; PackageDescription: 52-Pin Quad Flat Pack 0.65 mm Pitch; ComponentLink1Description: Manufacturer Link; ComponentLink1URL: http://www.freescale.com/
footprint 848D_N (QFP, 52-Leads, Body 10 x 10mm, Pitch 0.65mm, IPC Medium Density)
footprint 848D_L (QFP, 52-Leads, Body 10 x 10mm, Pitch 0.65mm, IPC High Density)
footprint 848D_M (QFP, 52-Leads, Body 10 x 10mm, Pitch 0.65mm, IPC Low Density)
3D model MC68HC05-848D (52-Pin Quad Flat Pack 0.65 mm Pitch)
pins: 1 FP4 (out), 2 FP3 (out), 3 FP2 (out), 4 FP1 (out), 5 BP3/FP0 (out), 6 BP2 (out), 7 BP1 (out), 8 BP0 (out), 9 VLCD (power), 10 OSC1 (in), 11 OSC2, 12 VDD (power), 13 NC, 14 XOSC2, 15 XOSC1 (in), 16 VSS (power), 17 ~{RESET} (in), 18 PA0/~{KWI}0 (io), 19 PA1/~{KWI}1 (io), 20 PA2/~{KWI}2 (io), 21 PA3/~{KWI}3/BZ (io), 22 PA4/AD0/EVI (io), 23 PA5/AD1 (io), 24 PA6/RMO (io), 25 PA7 (io), 26 NC, 27 PC0/SCK (io), 28 PC1/SDO (io), 29 PC2/SDI (io), 30 PC3/~{IRQ} (io), 31 PB0/FP24 (io), 32 PB1/FP23 (io), 33 PB2/FP22 (io), 34 PB3/FP21 (io), 35 PB4/FP20 (io), 36 PB5/FP19 (io), 37 PB6/FP18 (io), 38 PB7/FP17 (io), 39 NC, 40 FP16 (out), 41 FP15 (out), 42 FP14 (out), 43 FP13 (out), 44 FP12 (out), 45 FP11 (out), 46 FP10 (out), 47 FP9 (out), 48 FP8 (out), 49 FP7 (out), 50 FP6 (out), 51 FP5 (out), 52 NC

## MC68HC05L25FA
designator U?
8-Bit Microcontroller; Published: 17-Jan-2003; LatestRevisionDate: 13-Apr-2006; LatestRevisionNote: IPC-7351 Footprint Added.; DatasheetVersion: Rev 3, 5/2002; PackageVersion: rev4, Feb-2002; PackageReference: 932-02; Publisher: Altium Limited; PackageDescription: 48-Pin Thin Quad Flat Pack 0.5 mm Pitch; ComponentLink1Description: Manufacturer Link; ComponentLink1URL: http://www.freescale.com/
footprint 932-02_N (Thin QFP, 48-Leads, Body 7x7mm, Pitch 0.5mm, IPC Medium Density)
footprint 932-02_L (Thin QFP, 48-Leads, Body 7x7mm, Pitch 0.5mm, IPC High Density)
footprint 932-02_M (Thin QFP, 48-Leads, Body 7x7mm, Pitch 0.5mm, IPC Low Density)
3D model MC68HC05-932-02 (48-Pin Thin Quad Flat Pack 0.5 mm Pitch)
pins: 1 FP4 (out), 2 FP3 (out), 3 FP2 (out), 4 FP1 (out), 5 BP3/FP0 (out), 6 BP2 (out), 7 BP1 (out), 8 BP0 (out), 9 VLCD (power), 10 OSC1 (in), 11 OSC2, 12 VDD (power), 13 XOSC2, 14 XOSC1 (in), 15 VSS (power), 16 ~{RESET} (in), 17 PA0/~{KWI}0 (io), 18 PA1/~{KWI}1 (io), 19 PA2/~{KWI}2 (io), 20 PA3/~{KWI}3/BZ (io), 21 PA4/AD0/EVI (io), 22 PA5/AD1 (io), 23 PA6/RMO (io), 24 PA7 (io), 25 PC0/SCK (io), 26 PC1/SDO (io), 27 PC2/SDI (io), 28 PC3/~{IRQ} (io), 29 PB0/FP24 (io), 30 PB1/FP23 (io), 31 PB2/FP22 (io), 32 PB3/FP21 (io), 33 PB4/FP20 (io), 34 PB5/FP19 (io), 35 PB6/FP18 (io), 36 PB7/FP17 (io), 37 FP16 (out), 38 FP15 (out), 39 FP14 (out), 40 FP13 (out), 41 FP12 (out), 42 FP11 (out), 43 FP10 (out), 44 FP9 (out), 45 FP8 (out), 46 FP7 (out), 47 FP6 (out), 48 FP5 (out)

## MC68HC05L25PB
designator U?
8-Bit Microcontroller; Published: 17-Jan-2003; LatestRevisionDate: 13-Apr-2006; LatestRevisionNote: IPC-7351 Footprint Added.; DatasheetVersion: Rev 3, 5/2002; PackageVersion: rev4, Jul-2002; PackageReference: 848D; Publisher: Altium Limited; PackageDescription: 52-Pin Quad Flat Pack 0.65 mm Pitch; ComponentLink1Description: Manufacturer Link; ComponentLink1URL: http://www.freescale.com/
footprint 848D_N (QFP, 52-Leads, Body 10 x 10mm, Pitch 0.65mm, IPC Medium Density)
footprint 848D_L (QFP, 52-Leads, Body 10 x 10mm, Pitch 0.65mm, IPC High Density)
footprint 848D_M (QFP, 52-Leads, Body 10 x 10mm, Pitch 0.65mm, IPC Low Density)
3D model MC68HC05-848D (52-Pin Quad Flat Pack 0.65 mm Pitch)
pins: 1 FP4 (out), 2 FP3 (out), 3 FP2 (out), 4 FP1 (out), 5 BP3/FP0 (out), 6 BP2 (out), 7 BP1 (out), 8 BP0 (out), 9 VLCD (power), 10 OSC1 (in), 11 OSC2, 12 VDD (power), 13 NC, 14 XOSC2, 15 XOSC1 (in), 16 VSS (power), 17 ~{RESET} (in), 18 PA0/~{KWI}0 (io), 19 PA1/~{KWI}1 (io), 20 PA2/~{KWI}2 (io), 21 PA3/~{KWI}3/BZ (io), 22 PA4/AD0/EVI (io), 23 PA5/AD1 (io), 24 PA6/RMO (io), 25 PA7 (io), 26 NC, 27 PC0/SCK (io), 28 PC1/SDO (io), 29 PC2/SDI (io), 30 PC3/~{IRQ} (io), 31 PB0/FP24 (io), 32 PB1/FP23 (io), 33 PB2/FP22 (io), 34 PB3/FP21 (io), 35 PB4/FP20 (io), 36 PB5/FP19 (io), 37 PB6/FP18 (io), 38 PB7/FP17 (io), 39 NC, 40 FP16 (out), 41 FP15 (out), 42 FP14 (out), 43 FP13 (out), 44 FP12 (out), 45 FP11 (out), 46 FP10 (out), 47 FP9 (out), 48 FP8 (out), 49 FP7 (out), 50 FP6 (out), 51 FP5 (out), 52 NC

## MC68HC05LJ5P
designator U?
8-Bit Microcontroller; Published: 17-Jan-2003; LatestRevisionDate: 06-Jun-2005; LatestRevisionNote: Stylized 3D Model Added.; DatasheetVersion: Rev 1, 10-Nov-1998; PackageReference: 648-08; Publisher: Altium Limited; PackageDescription: DIP; 16 Leads; Row Spacing 7.62 mm; Pitch 2.54 mm; Code_JEDEC: MS-001-BB; ComponentLink1Description: Manufacturer Link; ComponentLink1URL: http://www.freescale.com/
footprint 648-08 (DIP; 16 Leads; Row Spacing 7.62 mm; Pitch 2.54 mm)
3D model 648-08 (DIP; 16 Leads; Row Spacing 7.62 mm; Pitch 2.54 mm)
pins: 1 OSC2/R, 2 OSC1, 3 ~{RESET} (io), 4 PA7 (io), 5 PA6 (io), 6 PA5 (io), 7 PA4 (io), 8 PB0 (io), 9 PA3 (io), 10 PA2 (io), 11 PA1 (io), 12 PA0 (io), 13 ~{IRQ} (in), 14 VSS (power), 15 VDD (power), 16 PB1 (io)

## MC68HC05P4ACDW
designator U?
8-Bit Microcontroller; Published: 17-Jan-2003; LatestRevisionDate: 13-Apr-2006; LatestRevisionNote: IPC-7351 Footprint Added.; DatasheetVersion: Rev 7, 5/2002; PackageVersion: May-1997; PackageReference: 751F-04; Publisher: Altium Limited; PackageDescription: 28-Pin Small Outline Integrated Circuit 1.27 mm Pitch; ComponentLink1Description: Manufacturer Link; ComponentLink1URL: http://www.freescale.com/
footprint 751F-04_N (SOIC, 28-Leads, Body 17.9x7.5mm, Pitch 1.27mm, IPC Medium Density)
footprint 751F-04_L (SOIC, 28-Leads, Body 17.9x7.5mm, Pitch 1.27mm, IPC High Density)
footprint 751F-04_M (SOIC, 28-Leads, Body 17.9x7.5mm, Pitch 1.27mm, IPC Low Density)
3D model 751F-03 (28-Pin Small Outline Integrated Circuit 1.27 mm Pitch)
pins: 1 ~{RESET} (in), 2 ~{IRQ} (in), 3 PA7 (io), 4 PA6 (io), 5 PA5 (io), 6 PA4 (io), 7 PA3 (io), 8 PA2 (io), 9 PA1 (io), 10 PA0 (io), 11 SDO/PB5 (io), 12 SDI/PB6 (io), 13 SCK/PB7 (io), 14 VSS (power), 15 PC7 (io), 16 PC6 (io), 17 PC5 (io), 18 PC4 (io), 19 PC3 (io), 20 PC2 (io), 21 PC1 (io), 22 PC0 (io), 23 PD5 (io), 24 TCMP (out), 25 PD7/TCAP (in), 26 OSC2, 27 OSC1, 28 VDD (power)

## MC68HC05P4ACP
designator U?
8-Bit Microcontroller; Published: 17-Jan-2003; LatestRevisionDate: 06-Jun-2005; LatestRevisionNote: Stylized 3D Model Added.; DatasheetVersion: Rev 7, 5/2002; PackageReference: 710-02; Publisher: Altium Limited; PackageDescription: DIP; 28 Leads; Row Spacing 15.24 mm; Pitch 2.54 mm; ComponentLink1Description: Manufacturer Link; ComponentLink1URL: http://www.freescale.com/
footprint 710-02 (DIP; 28 Leads; Row Spacing 15.24 mm; Pitch 2.54 mm)
3D model 710-02 (DIP; 28 Leads; Row Spacing 15.24 mm; Pitch 2.54 mm)
pins: 1 ~{RESET} (in), 2 ~{IRQ} (in), 3 PA7 (io), 4 PA6 (io), 5 PA5 (io), 6 PA4 (io), 7 PA3 (io), 8 PA2 (io), 9 PA1 (io), 10 PA0 (io), 11 SDO/PB5 (io), 12 SDI/PB6 (io), 13 SCK/PB7 (io), 14 VSS (power), 15 PC7 (io), 16 PC6 (io), 17 PC5 (io), 18 PC4 (io), 19 PC3 (io), 20 PC2 (io), 21 PC1 (io), 22 PC0 (io), 23 PD5 (io), 24 TCMP (out), 25 PD7/TCAP (in), 26 OSC2, 27 OSC1, 28 VDD (power)

## MC68HC05P4AVDW
designator U?
8-Bit Microcontroller; Published: 17-Jan-2003; LatestRevisionDate: 13-Apr-2006; LatestRevisionNote: IPC-7351 Footprint Added.; DatasheetVersion: Rev 7, 5/2002; PackageVersion: May-1997; PackageReference: 751F-04; Publisher: Altium Limited; PackageDescription: 28-Pin Small Outline Integrated Circuit 1.27 mm Pitch; ComponentLink1Description: Manufacturer Link; ComponentLink1URL: http://www.freescale.com/
footprint 751F-04_N (SOIC, 28-Leads, Body 17.9x7.5mm, Pitch 1.27mm, IPC Medium Density)
footprint 751F-04_L (SOIC, 28-Leads, Body 17.9x7.5mm, Pitch 1.27mm, IPC High Density)
footprint 751F-04_M (SOIC, 28-Leads, Body 17.9x7.5mm, Pitch 1.27mm, IPC Low Density)
3D model 751F-03 (28-Pin Small Outline Integrated Circuit 1.27 mm Pitch)
pins: 1 ~{RESET} (in), 2 ~{IRQ} (in), 3 PA7 (io), 4 PA6 (io), 5 PA5 (io), 6 PA4 (io), 7 PA3 (io), 8 PA2 (io), 9 PA1 (io), 10 PA0 (io), 11 SDO/PB5 (io), 12 SDI/PB6 (io), 13 SCK/PB7 (io), 14 VSS (power), 15 PC7 (io), 16 PC6 (io), 17 PC5 (io), 18 PC4 (io), 19 PC3 (io), 20 PC2 (io), 21 PC1 (io), 22 PC0 (io), 23 PD5 (io), 24 TCMP (out), 25 PD7/TCAP (in), 26 OSC2, 27 OSC1, 28 VDD (power)

## MC68HC05P4AVP
designator U?
8-Bit Microcontroller; Published: 17-Jan-2003; LatestRevisionDate: 06-Jun-2005; LatestRevisionNote: Stylized 3D Model Added.; DatasheetVersion: Rev 7, 5/2002; PackageReference: 710-02; Publisher: Altium Limited; PackageDescription: DIP; 28 Leads; Row Spacing 15.24 mm; Pitch 2.54 mm; ComponentLink1Description: Manufacturer Link; ComponentLink1URL: http://www.freescale.com/
footprint 710-02 (DIP; 28 Leads; Row Spacing 15.24 mm; Pitch 2.54 mm)
3D model 710-02 (DIP; 28 Leads; Row Spacing 15.24 mm; Pitch 2.54 mm)
pins: 1 ~{RESET} (in), 2 ~{IRQ} (in), 3 PA7 (io), 4 PA6 (io), 5 PA5 (io), 6 PA4 (io), 7 PA3 (io), 8 PA2 (io), 9 PA1 (io), 10 PA0 (io), 11 SDO/PB5 (io), 12 SDI/PB6 (io), 13 SCK/PB7 (io), 14 VSS (power), 15 PC7 (io), 16 PC6 (io), 17 PC5 (io), 18 PC4 (io), 19 PC3 (io), 20 PC2 (io), 21 PC1 (io), 22 PC0 (io), 23 PD5 (io), 24 TCMP (out), 25 PD7/TCAP (in), 26 OSC2, 27 OSC1, 28 VDD (power)

## MC68HC05P6CDW
designator U?
8-Bit Microcontroller; Published: 17-Jan-2003; LatestRevisionDate: 13-Apr-2006; LatestRevisionNote: IPC-7351 Footprint Added.; DatasheetVersion: Jan-1999; PackageReference: 751F-03; Publisher: Altium Limited; PackageDescription: 28-Pin Small Outline Integrated Circuit 1.27 mm Pitch; ComponentLink1Description: Manufacturer Link; ComponentLink1URL: http://www.freescale.com/
footprint 751F-03_N (SOIC, 28-Leads, Body 17.9x7.5mm, Pitch 1.27mm, IPC Medium Density)
footprint 751F-03_L (SOIC, 28-Leads, Body 17.9x7.5mm, Pitch 1.27mm, IPC High Density)
footprint 751F-03_M (SOIC, 28-Leads, Body 17.9x7.5mm, Pitch 1.27mm, IPC Low Density)
3D model 751F-03 (28-Pin Small Outline Integrated Circuit 1.27 mm Pitch)
pins: 1 ~{RESET} (in), 2 ~{IRQ} (in), 3 PA7 (io), 4 PA6 (io), 5 PA5 (io), 6 PA4 (io), 7 PA3 (io), 8 PA2 (io), 9 PA1 (io), 10 PA0 (io), 11 PB5/SDO (io), 12 PB6/SDI (io), 13 PB7/SCK (io), 14 VSS (power), 15 PC7/VRH (io), 16 PC6/AN0 (io), 17 PC5/AN1 (io), 18 PC4/AN2 (io), 19 PC3/AN3 (io), 20 PC2 (io), 21 PC1 (io), 22 PC0 (io), 23 PD5 (io), 24 TCMP (out), 25 PD7/TCAP (in), 26 OSC2, 27 OSC1 (in), 28 VDD (power)